# Altium schematic symbol library SCH - CONNECTORS - SAME SKY UJ20-C-H-G-SMT-2-P16-TR.SchLib: 1 symbol
Pins are listed as number, name and electrical type; pins without a type are passive.

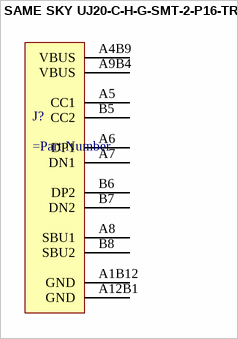
[diagram p0: symbol SAME SKY UJ20-C-H-G-SMT-2-P16-TR]

## SAME SKY UJ20-C-H-G-SMT-2-P16-TR
designator J?
pins: A1B12 GND, A4B9 VBUS, A5 CC1, A6 DP1, A7 DN1, A8 SBU1, A9B4 VBUS, A12B1 GND, B5 CC2, B6 DP2, B7 DN2, B8 SBU2